# EAGLE library part GT-USB-7010 (library GT-USB-7010)
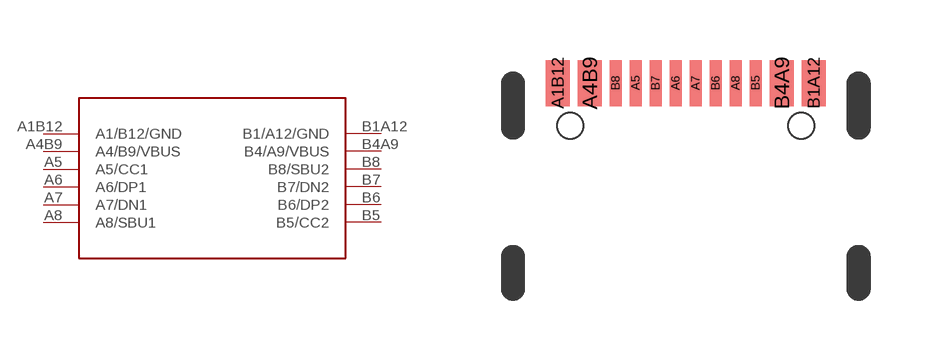
[diagram p0: symbol with the pads of GT-USB-7010; footprint GT-USB-7010]

Designator prefix J

## GT-USB-7010  [GT-USB-7010]
A1B12  A1/B12/GND
A4B9  A4/B9/VBUS
A5  A5/CC1
A6  A6/DP1
A7  A7/DN1
A8  A8/SBU1
B1A12  B1/A12/GND
B4A9  B4/A9/VBUS
B5  B5/CC2
B6  B6/DP2
B7  B7/DN2
B8  B8/SBU2

## Footprint GT-USB-7010 (pad centres in mm)
smd 0.6 x 1.15: A1B12 -3.2,4.745; A4B9 -2.4,4.745; B1A12 3.2,4.745; B4A9 2.4,4.745
smd 0.3 x 1.15: A5 -1.25,4.745; A6 -0.25,4.745; A7 0.25,4.745; A8 1.25,4.745; B5 1.75,4.745; B6 0.75,4.745; B7 -0.75,4.745; B8 -1.75,4.745
hole 0.65 at -2.89,3.68
hole 0.65 at 2.89,3.68